# Altium schematic symbol library ON Semi.SchLib: 4 symbols
Pins are listed as number, name and electrical type; pins without a type are passive.

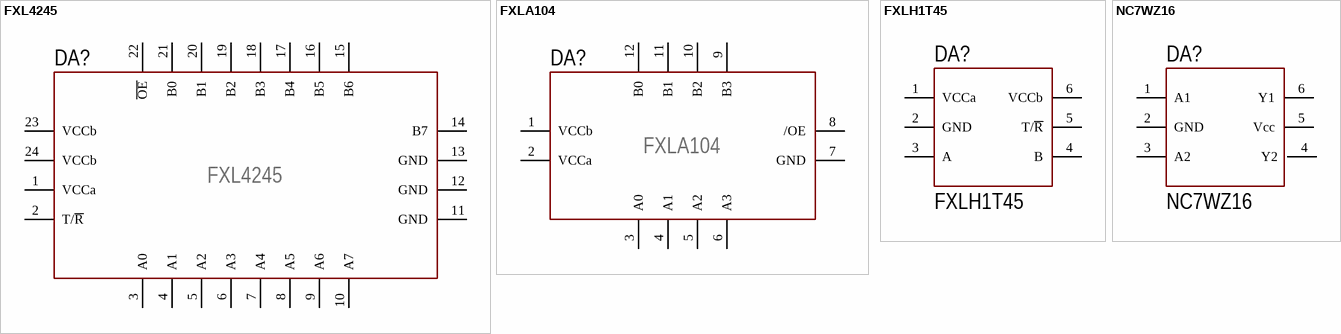
[diagram p0: symbols FXL4245 to NC7WZ16]

## FXL4245
designator DA?, comment Part: FXL4245  (hidden comment: FXL4245MPX)
Low-Voltage, Dual-Supply, 8-Bit, Signal Translator with Configurable Voltage Supplies, Signal Levels, and 3-State Outputs; Case: MPX
footprint MLP-24 (QFN, 24-Leads, Body 3.50x4.50mm, Pitch 0.50mm, Thermal Pad 2.10x3.10mm, IPC Medium Density)
pins: 0 (power) hidden, 1 VCCa (power), 2 T/~{R} (power), 3 A0 (power), 4 A1 (power), 5 A2 (power), 6 A3 (power), 7 A4 (power), 8 A5 (power), 9 A6 (power), 10 A7 (power), 11 GND (power), 12 GND (power), 13 GND (power), 14 B7 (power), 15 B6 (power), 16 B5 (power), 17 B4 (power), 18 B3 (power), 19 B2 (power), 20 B1 (power), 21 B0 (power), 22 ~{OE} (power), 23 VCCb (power), 24 VCCb (power)

## FXLA104
designator DA?  Part: FXLA104  (hidden comment: *)
Low-Voltage Dual-Supply 4-Bit Voltage Translator; Case: UM12X
footprint UMLP-12 (QFN, 12-Leads, Body 1.80x1.80mm, Pitch 0.40mm, IPC Medium Density)
pins: 1 VCCb (power), 2 VCCa (power), 3 A0 (power), 4 A1 (power), 5 A2 (power), 6 A3 (power), 7 GND (power), 8 /OE (power), 9 B3 (power), 10 B2 (power), 11 B1 (power), 12 B0 (power)

## FXLH1T45
designator DA?, comment Part: FXLH1T45  (hidden comment: FXLH1T45L6X)
Level Translator, 1-BitBidirectional; Case: L6X
footprint PSON-6
pins: 1 VCCa (power), 2 GND (power), 3 A (power), 4 B (power), 5 T/~{R} (power), 6 VCCb (power)

## NC7WZ16
designator DA?, comment Part: NC7WZ16  (hidden comment: NC7WZ16P6X)
TinyLogic UHS Dual Buffer; Case: P6X
footprint SC70-6
pins: 1 A1 (power), 2 GND (power), 3 A2 (power), 4 Y2 (power), 5 Vcc (power), 6 Y1 (power)